# EAGLE library part TA7368P (library mita-akiba)
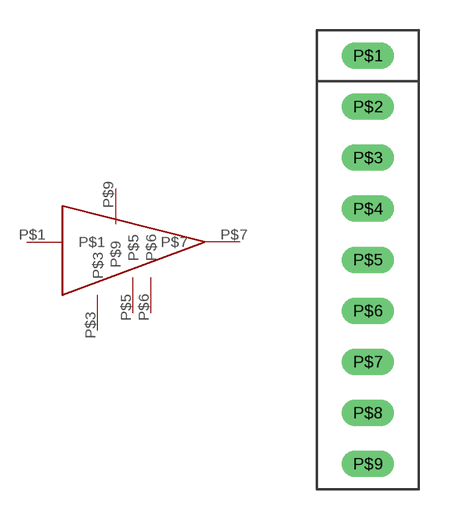
[diagram p27: symbol with the pads of SIL9P; footprint SIL9P]

Designator prefix -

## TA7368P  [SIL9P]
P$1  P$1
P$3  P$3
P$5  P$5
P$6  P$6
P$7  P$7
P$9  P$9

## Footprint SIL9P (pad centres in mm)
drill 0.8 long: P$1 0,10.16; P$2 0,7.62; P$3 0,5.08; P$4 0,2.54; P$5 0,0; P$6 0,-2.54; P$7 0,-5.08; P$8 0,-7.62; P$9 0,-10.16